# EAGLE library part TLE8104E (library infineon)
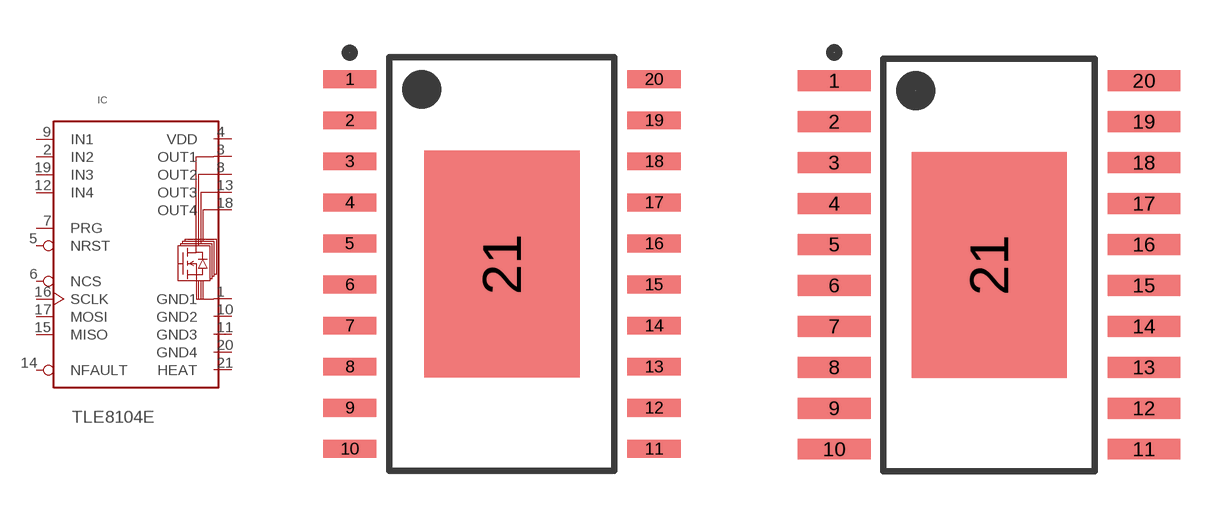
[diagram p2: symbol with the pads of INF-PG-DSO-20-30_L_1PRIMARY; footprints INF-PG-DSO-20-30_L_1PRIMARY, INF-PG-DSO-20-30_M_1PRIMARY]

Designator prefix IC

## TLE8104EL  [INF-PG-DSO-20-30_L_1PRIMARY]
1  GND1
2  IN2
3  OUT1
4  VDD
5  NRST
6  NCS
7  PRG
8  OUT2
9  IN1
10  GND2
11  GND3
12  IN4
13  OUT3
14  NFAULT
15  MISO
16  SCLK
17  MOSI
18  OUT4
19  IN3
20  GND4
21  HEAT

## TLE8104EM  [INF-PG-DSO-20-30_M_1PRIMARY]
Pads as for INF-PG-DSO-20-30_L_1PRIMARY

## TLE8104EN  [INF-PG-DSO-20-30_N_1PRIMARY]
Pads as for INF-PG-DSO-20-30_L_1PRIMARY

## Footprint INF-PG-DSO-20-30_L_1PRIMARY (pad centres in mm)
Original name INF-PG-DSO-20-30_L
smd 1.65 x 0.55: 1 -4.7,5.715; 2 -4.7,4.445; 3 -4.7,3.175; 4 -4.7,1.905; 5 -4.7,0.635; 6 -4.7,-0.635; 7 -4.7,-1.905; 8 -4.7,-3.175; 9 -4.7,-4.445; 10 -4.7,-5.715; 11 4.7,-5.715; 12 4.7,-4.445; 13 4.7,-3.175; 14 4.7,-1.905; 15 4.7,-0.635; 16 4.7,0.635; 17 4.7,1.905; 18 4.7,3.175; 19 4.7,4.445; 20 4.7,5.715
smd 4.8 x 7: 21 0,0

## Footprint INF-PG-DSO-20-30_M_1PRIMARY (pad centres in mm)
Original name INF-PG-DSO-20-30_M
smd 2.25 x 0.65: 1 -4.8,5.715; 2 -4.8,4.445; 3 -4.8,3.175; 4 -4.8,1.905; 5 -4.8,0.635; 6 -4.8,-0.635; 7 -4.8,-1.905; 8 -4.8,-3.175; 9 -4.8,-4.445; 10 -4.8,-5.715; 11 4.8,-5.715; 12 4.8,-4.445; 13 4.8,-3.175; 14 4.8,-1.905; 15 4.8,-0.635; 16 4.8,0.635; 17 4.8,1.905; 18 4.8,3.175; 19 4.8,4.445; 20 4.8,5.715
smd 4.8 x 7: 21 0,0

## Footprint INF-PG-DSO-20-30_N_1PRIMARY (pad centres in mm)
Original name INF-PG-DSO-20-30_N
smd 1.95 x 0.55: 1 -4.75,5.715; 2 -4.75,4.445; 3 -4.75,3.175; 4 -4.75,1.905; 5 -4.75,0.635; 6 -4.75,-0.635; 7 -4.75,-1.905; 8 -4.75,-3.175; 9 -4.75,-4.445; 10 -4.75,-5.715; 11 4.75,-5.715; 12 4.75,-4.445; 13 4.75,-3.175; 14 4.75,-1.905; 15 4.75,-0.635; 16 4.75,0.635; 17 4.75,1.905; 18 4.75,3.175; 19 4.75,4.445; 20 4.75,5.715
smd 4.8 x 7: 21 0,0